# EAGLE library part 3-1470209-3 (library ruark2)
20 Position Receptacle Connector 0.079" (2.00mm) Through Hole Gold
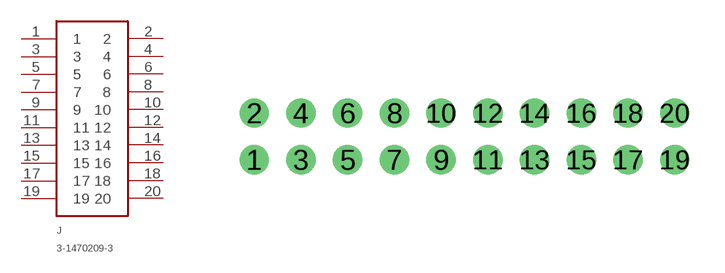
[diagram p167: symbol with the pads of 10X2_2MM; footprint 10X2_2MM]

Designator prefix J

## 3-1470209-3 (PARTNO: 3-1470209-3-ND)  [10X2_2MM]
1  1
2  2
3  3
4  4
5  5
6  6
7  7
8  8
9  9
10  10
11  11
12  12
13  13
14  14
15  15
16  16
17  17
18  18
19  19
20  20

## Footprint 10X2_2MM (pad centres in mm)
drill 0.75: 1 -9,-1; 2 -9,1; 3 -7,-1; 4 -7,1; 5 -5,-1; 6 -5,1; 7 -3,-1; 8 -3,1; 9 -1,-1; 10 -1,1; 11 1,-1; 12 1,1; 13 3,-1; 14 3,1; 15 5,-1; 16 5,1; 17 7,-1; 18 7,1; 19 9,-1; 20 9,1